# EAGLE library part MAX6921 (library 23K_candrian)
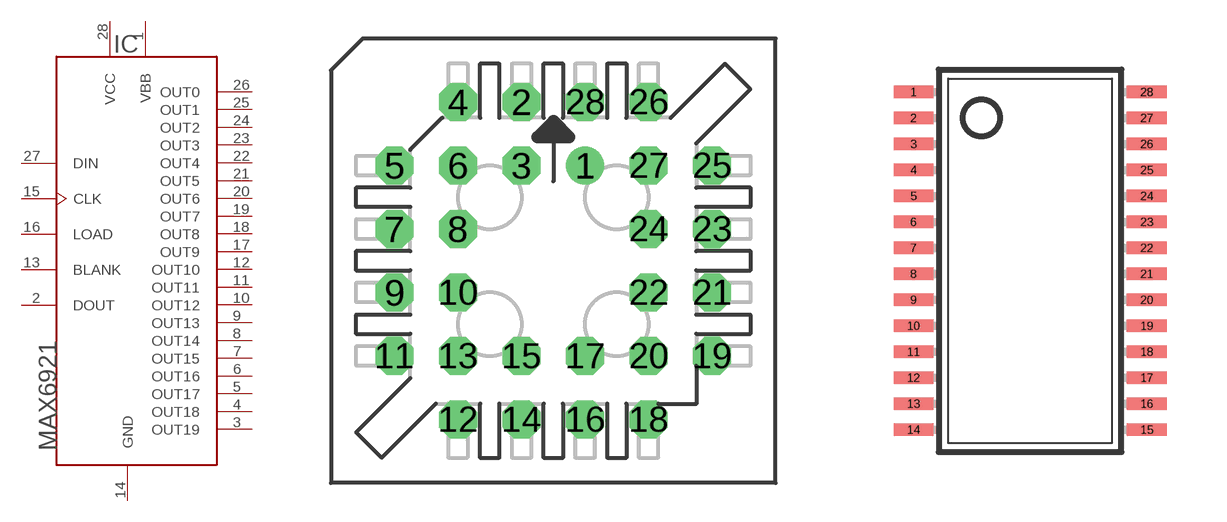
[diagram p5: symbol with the pads of PLCC-S28; footprints PLCC-S28, TSSOP28]

Designator prefix IC

## MAX6921PLCC-S28  [PLCC-S28]
1  VBB  sup
2  DOUT  out
3  OUT19  out
4  OUT18  out
5  OUT17  out
6  OUT16  out
7  OUT15  out
8  OUT14  out
9  OUT13  out
10  OUT12  out
11  OUT11  out
12  OUT10  out
13  BLANK  in
14  GND  sup
15  CLK  in
16  LOAD  in
17  OUT9  out
18  OUT8  out
19  OUT7  out
20  OUT6  out
21  OUT5  out
22  OUT4  out
23  OUT3  out
24  OUT2  out
25  OUT1  out
26  OUT0  out
27  DIN  in
28  VCC  pwr

## MAX6921TSSOP28  [TSSOP28]
Pads as for PLCC-S28

## Footprint PLCC-S28 (pad centres in mm)
drill 0.8 pad 1.524: 1 1.27,3.81
drill 0.8 pad 1.524 octagon: 2 -1.27,6.35; 3 -1.27,3.81; 4 -3.81,6.35; 5 -6.35,3.81; 6 -3.81,3.81; 7 -6.35,1.27; 8 -3.81,1.27; 9 -6.35,-1.27; 10 -3.81,-1.27; 11 -6.35,-3.81; 12 -3.81,-6.35; 13 -3.81,-3.81; 14 -1.27,-6.35; 15 -1.27,-3.81; 16 1.27,-6.35; 17 1.27,-3.81; 18 3.81,-6.35; 19 6.35,-3.81; 20 3.81,-3.81; 21 6.35,-1.27; 22 3.81,-1.27; 23 6.35,1.27; 24 3.81,1.27; 25 6.35,3.81; 26 3.81,6.35; 27 3.81,3.81; 28 1.27,6.35

## Footprint TSSOP28 (pad centres in mm)
smd 0.991 x 0.305: 1 -2.388,3.955; 2 -2.388,3.305; 3 -2.388,2.655; 4 -2.388,2.005; 5 -2.388,1.355; 6 -2.388,0.705; 7 -2.388,0.055; 8 -2.388,-0.595; 9 -2.388,-1.245; 10 -2.388,-1.895; 11 -2.388,-2.545; 12 -2.388,-3.195; 13 -2.388,-3.845; 14 -2.388,-4.495; 15 3.448,-4.495; 16 3.448,-3.845; 17 3.448,-3.195; 18 3.448,-2.545; 19 3.448,-1.895; 20 3.448,-1.245; 21 3.448,-0.595; 22 3.448,0.055; 23 3.448,0.705; 24 3.448,1.355; 25 3.448,2.005; 26 3.448,2.655; 27 3.448,3.305; 28 3.448,3.955